# Altium footprint library Connectors.PcbLib: 202 footprints (part 12 of 13)
Each footprint in its own frame and in the unit in brackets; x right, y up, seen from the top. Pads: shape width x height; smd on the part's side, far side on the other; paste and mask are expansions set on the pad; w line width, h text height; cw(c..) or ccw(c..) is an arc to the next point about the centre after c.
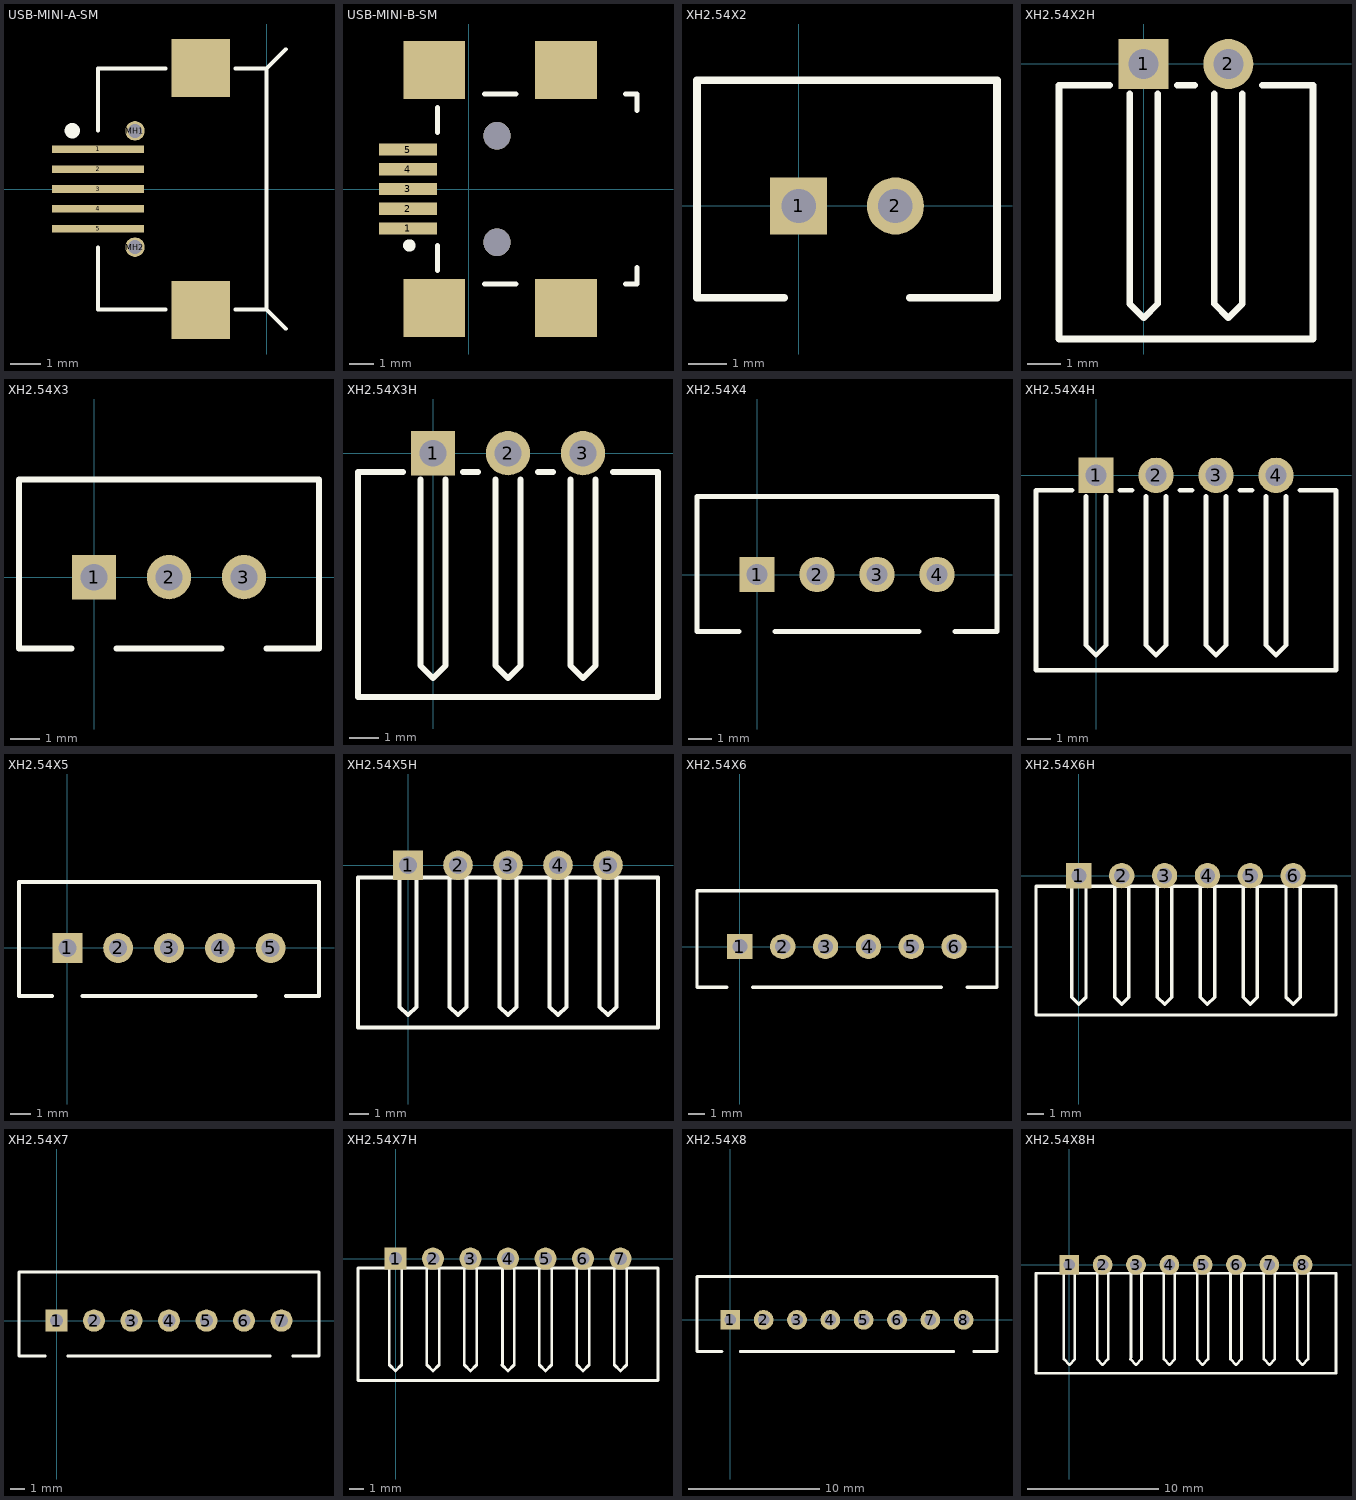
[diagram p11: the footprints below, top view; thin cyan lines are the x and y axes]

## USB-MINI-A-SM [mm]
pads (9):
  rect 3x0.25 smd: 1(-5.508,1.3) 2(-5.508,0.65) 3(-5.508,0) 4(-5.508,-0.65) 5(-5.508,-1.3)
  round 0.635 hole 0.457 unplated: MH1(-4.3,1.9) MH2(-4.3,-1.9)
  rect 1.9x1.9 smd: ""(-2.15,-3.95) ""(-2.15,3.95)
Top Overlay:
  circle w0.25: c-6.348,1.905 r0.125
  lines w0.127: -5.508,-3.937 -3.302,-3.937 ; -5.508,-3.9 -5.508,-1.905 ; -5.508,1.905 -5.508,3.9 ; -5.508,3.937 -3.302,3.937 ; -1.016,-3.937 0,-3.937 0.63,-4.567 ; -1.016,3.937 0,3.937 0.63,4.567 ; 0,-3.9 0,3.9

## USB-MINI-B-SM [mm] "Connector; USB Mini-B, Sinking Type, SM; 5 Position; Right Angle"
height 0.65
pads (9):
  rect 2.35x0.5 smd: 1(-2.465,-1.6) 2(-2.465,-0.8) 3(-2.465,0) 4(-2.465,0.8) 5(-2.465,1.6)
  rect 2.5x2.35 smd: ""(-1.397,-4.826) ""(-1.397,4.826) ""(3.937,-4.826) ""(3.937,4.826)
via 1.143,2.159 diameter 1.1 hole 1.1
via 1.143,-2.159 diameter 1.1 hole 1.1
Top Overlay:
  circle w0.25: c-2.411,-2.286 r0.125
  lines w0.2: -1.27,-3.302 -1.27,-2.286 ; -1.27,2.286 -1.27,3.302 ; 0.635,-3.85 1.905,-3.85 ; 0.635,3.85 1.905,3.85 ; 6.35,-3.85 6.813,-3.85 6.813,-3.175 ; 6.35,3.85 6.813,3.85 6.813,3.175

## XH2.54X2 [mm] "Connector; Header; 2 Position"
pads (2):
  rect 1.5x1.5 hole 0.9: 1(0,0)
  round 1.5 hole 0.9: 2(2.54,0)
Top Overlay:
  lines w0.2: -0.381,-2.413 -2.667,-2.413 -2.667,3.302 5.207,3.302 5.207,-2.413 2.921,-2.413

## XH2.54X2H [mm] "Connector; Header; 2 Position; Right Angle"
pads (2):
  rect 1.5x1.5 hole 0.9: 1(0,0)
  round 1.5 hole 0.9: 2(2.54,0)
Top Overlay:
  lines w0.2: -1.016,-0.635 -2.54,-0.635 -2.54,-8.255 5.08,-8.255 5.08,-0.635 3.556,-0.635 ; -0.423,-0.889 -0.423,-7.197 0,-7.62 0.423,-7.197 0.423,-0.889 ; 1.016,-0.635 1.524,-0.635 ; 2.117,-0.889 2.117,-7.197 2.54,-7.62 2.963,-7.197 2.963,-0.889

## XH2.54X3 [mm] "Connector; Header; 3 Position"
pads (3):
  rect 1.5x1.5 hole 0.9: 1(0,0)
  round 1.5 hole 0.9: 2(2.54,0) 3(5.08,0)
Top Overlay:
  lines w0.2: -0.762,-2.413 -2.54,-2.413 -2.54,3.302 7.62,3.302 7.62,-2.413 5.842,-2.413 ; 0.762,-2.413 4.318,-2.413

## XH2.54X3H [mm] "Connector; Header; 3 Position; Right Angle"
pads (3):
  rect 1.5x1.5 hole 0.9: 1(0,0)
  round 1.5 hole 0.9: 2(2.54,0) 3(5.08,0)
Top Overlay:
  lines w0.2: -1.016,-0.635 -2.54,-0.635 -2.54,-8.255 7.62,-8.255 7.62,-0.635 6.096,-0.635 ; -0.423,-0.889 -0.423,-7.197 0,-7.62 0.423,-7.197 0.423,-0.889 ; 1.016,-0.635 1.524,-0.635 ; 2.117,-0.889 2.117,-7.197 2.54,-7.62 2.963,-7.197 2.963,-0.889 ; 3.556,-0.635 4.064,-0.635 ; 4.657,-0.889 4.657,-7.197 5.08,-7.62 5.503,-7.197 5.503,-0.889

## XH2.54X4 [mm] "Connector; Header; 4 Position"
pads (4):
  rect 1.5x1.5 hole 0.9: 1(0,0)
  round 1.5 hole 0.9: 2(2.54,0) 3(5.08,0) 4(7.62,0)
Top Overlay:
  lines w0.2: -0.762,-2.413 -2.54,-2.413 -2.54,3.302 10.16,3.302 10.16,-2.413 8.382,-2.413 ; 0.762,-2.413 6.858,-2.413

## XH2.54X4H [mm] "Connector; Header; 4 Position; Right Angle"
pads (4):
  rect 1.5x1.5 hole 0.9: 1(0,0)
  round 1.5 hole 0.9: 2(2.54,0) 3(5.08,0) 4(7.62,0)
Top Overlay:
  lines w0.2: -1.016,-0.635 -2.54,-0.635 -2.54,-8.255 10.16,-8.255 10.16,-0.635 8.636,-0.635 ; -0.423,-0.889 -0.423,-7.197 0,-7.62 0.423,-7.197 0.423,-0.889 ; 1.016,-0.635 1.524,-0.635 ; 2.117,-0.889 2.117,-7.197 2.54,-7.62 2.963,-7.197 2.963,-0.889 ; 3.556,-0.635 4.064,-0.635 ; 4.657,-0.889 4.657,-7.197 5.08,-7.62 5.503,-7.197 5.503,-0.889 ; 6.096,-0.635 6.604,-0.635 ; 7.197,-0.889 7.197,-7.197 7.62,-7.62 8.043,-7.197 8.043,-0.889

## XH2.54X5 [mm] "Connector; Header; 5 Position"
pads (5):
  rect 1.5x1.5 hole 0.9: 1(0,0)
  round 1.5 hole 0.9: 2(2.54,0) 3(5.08,0) 4(7.62,0) 5(10.16,0)
Top Overlay:
  lines w0.2: -0.762,-2.413 -2.413,-2.413 -2.413,3.302 12.573,3.302 12.573,-2.413 10.922,-2.413 ; 0.762,-2.413 9.398,-2.413

## XH2.54X5H [mm] "Connector; Header; 5 Position; Right Angle"
pads (5):
  rect 1.5x1.5 hole 0.9: 1(0,0)
  round 1.5 hole 0.9: 2(2.54,0) 3(5.08,0) 4(7.62,0) 5(10.16,0)
Top Overlay:
  lines w0.2: -0.423,-0.635 -0.423,-7.197 0,-7.62 0.423,-7.197 0.423,-0.635 ; 2.117,-0.635 2.117,-7.197 2.54,-7.62 2.963,-7.197 2.963,-0.635 ; 4.657,-0.635 4.657,-7.197 5.08,-7.62 5.503,-7.197 5.503,-0.635 ; 7.197,-0.635 7.197,-7.197 7.62,-7.62 8.043,-7.197 8.043,-0.635 ; 9.737,-0.635 9.737,-7.197 10.16,-7.62 10.583,-7.197 10.583,-0.635 ; -2.54,-8.255 -2.54,-0.635 12.7,-0.635 12.7,-8.255 -2.54,-8.255

## XH2.54X6 [mm] "Connector; Header; 6 Position"
pads (6):
  rect 1.5x1.5 hole 0.9: 1(0,0)
  round 1.5 hole 0.9: 2(2.54,0) 3(5.08,0) 4(7.62,0) 5(10.16,0) 6(12.7,0)
Top Overlay:
  lines w0.2: -0.762,-2.413 -2.54,-2.413 -2.54,3.302 15.24,3.302 15.24,-2.413 13.462,-2.413 ; 0.762,-2.413 11.938,-2.413

## XH2.54X6H [mm] "Connector; Header; 6 Position; Right Angle"
pads (6):
  rect 1.5x1.5 hole 0.9: 1(0,0)
  round 1.5 hole 0.9: 2(2.54,0) 3(5.08,0) 4(7.62,0) 5(10.16,0) 6(12.7,0)
Top Overlay:
  lines w0.2: -0.423,-0.635 -0.423,-7.197 0,-7.62 0.423,-7.197 0.423,-0.635 ; 2.117,-0.635 2.117,-7.197 2.54,-7.62 2.963,-7.197 2.963,-0.635 ; 4.657,-0.635 4.657,-7.197 5.08,-7.62 5.503,-7.197 5.503,-0.635 ; 7.197,-0.635 7.197,-7.197 7.62,-7.62 8.043,-7.197 8.043,-0.635 ; 9.737,-0.635 9.737,-7.197 10.16,-7.62 10.583,-7.197 10.583,-0.635 ; 12.277,-0.635 12.277,-7.197 12.7,-7.62 13.123,-7.197 13.123,-0.635 ; -2.54,-8.255 -2.54,-0.635 15.24,-0.635 15.24,-8.255 -2.54,-8.255

## XH2.54X7 [mm] "Connector; Header; 7 Position"
pads (7):
  rect 1.5x1.5 hole 0.9: 1(0,0)
  round 1.5 hole 0.9: 2(2.54,0) 3(5.08,0) 4(7.62,0) 5(10.16,0) 6(12.7,0) 7(15.24,0)
Top Overlay:
  lines w0.2: -0.762,-2.413 -2.54,-2.413 -2.54,3.302 17.78,3.302 17.78,-2.413 16.002,-2.413 ; 0.762,-2.413 14.478,-2.413

## XH2.54X7H [mm] "Connector; Header; 7 Position; Right Angle"
pads (7):
  rect 1.5x1.5 hole 0.9: 1(0,0)
  round 1.5 hole 0.9: 2(2.54,0) 3(5.08,0) 4(7.62,0) 5(10.16,0) 6(12.7,0) 7(15.24,0)
Top Overlay:
  lines w0.2: -0.423,-0.635 -0.423,-7.197 0,-7.62 0.423,-7.197 0.423,-0.635 ; 2.117,-0.635 2.117,-7.197 2.54,-7.62 2.963,-7.197 2.963,-0.635 ; 4.657,-0.635 4.657,-7.197 5.08,-7.62 5.503,-7.197 5.503,-0.635 ; 7.197,-7.197 7.62,-7.62 8.043,-7.197 8.043,-0.635 ; 7.239,-7.197 7.239,-0.635 ; 9.737,-0.635 9.737,-7.197 10.16,-7.62 10.583,-7.197 10.583,-0.635 ; 12.277,-0.635 12.277,-7.197 12.7,-7.62 13.123,-7.197 13.123,-0.635 ; 14.817,-0.635 14.817,-7.197 15.24,-7.62 15.663,-7.197 15.663,-0.635 ; -2.54,-8.255 -2.54,-0.635 17.78,-0.635 17.78,-8.255 -2.54,-8.255

## XH2.54X8 [mm] "Connector; Header; 8 Position"
pads (8):
  rect 1.5x1.5 hole 0.9: 1(0,0)
  round 1.5 hole 0.9: 2(2.54,0) 3(5.08,0) 4(7.62,0) 5(10.16,0) 6(12.7,0) 7(15.24,0) 8(17.78,0)
Top Overlay:
  lines w0.2: -0.635,-2.413 -2.54,-2.413 -2.54,3.302 20.32,3.302 20.32,-2.413 18.542,-2.413 ; 0.762,-2.413 17.018,-2.413

## XH2.54X8H [mm] "Connector; Header; 8 Position; Right Angle"
pads (8):
  rect 1.5x1.5 hole 0.9: 1(0,0)
  round 1.5 hole 0.9: 2(2.54,0) 3(5.08,0) 4(7.62,0) 5(10.16,0) 6(12.7,0) 7(15.24,0) 8(17.78,0)
Top Overlay:
  lines w0.2: -0.423,-0.635 -0.423,-7.197 0,-7.62 0.423,-7.197 0.423,-0.635 ; 2.117,-0.635 2.117,-7.197 2.54,-7.62 2.963,-7.197 2.963,-0.635 ; 4.657,-7.197 5.08,-7.62 5.503,-7.197 5.503,-0.635 ; 4.699,-7.07 4.699,-0.635 ; 7.197,-0.635 7.197,-7.197 7.62,-7.62 8.043,-7.197 8.043,-0.635 ; 9.737,-0.635 9.737,-7.197 10.16,-7.62 10.583,-7.197 10.583,-0.635 ; 12.277,-0.635 12.277,-7.197 12.7,-7.62 13.123,-7.197 13.123,-0.635 ; 14.817,-0.635 14.817,-7.197 15.24,-7.62 15.663,-7.197 15.663,-0.635 ; 17.357,-0.635 17.357,-7.197 17.78,-7.62 18.203,-7.197 18.203,-0.635 ; -2.54,-8.255 20.32,-8.255 20.32,-0.635 -2.54,-0.635 -2.54,-8.255